# Altium footprint library whong.PcbLib: 68 footprints (part 4 of 5)
Each footprint in its own frame and in the unit in brackets; x right, y up, seen from the top. Pads: shape width x height; smd on the part's side, far side on the other; paste and mask are expansions set on the pad; w line width, h text height; cw(c..) or ccw(c..) is an arc to the next point about the centre after c.
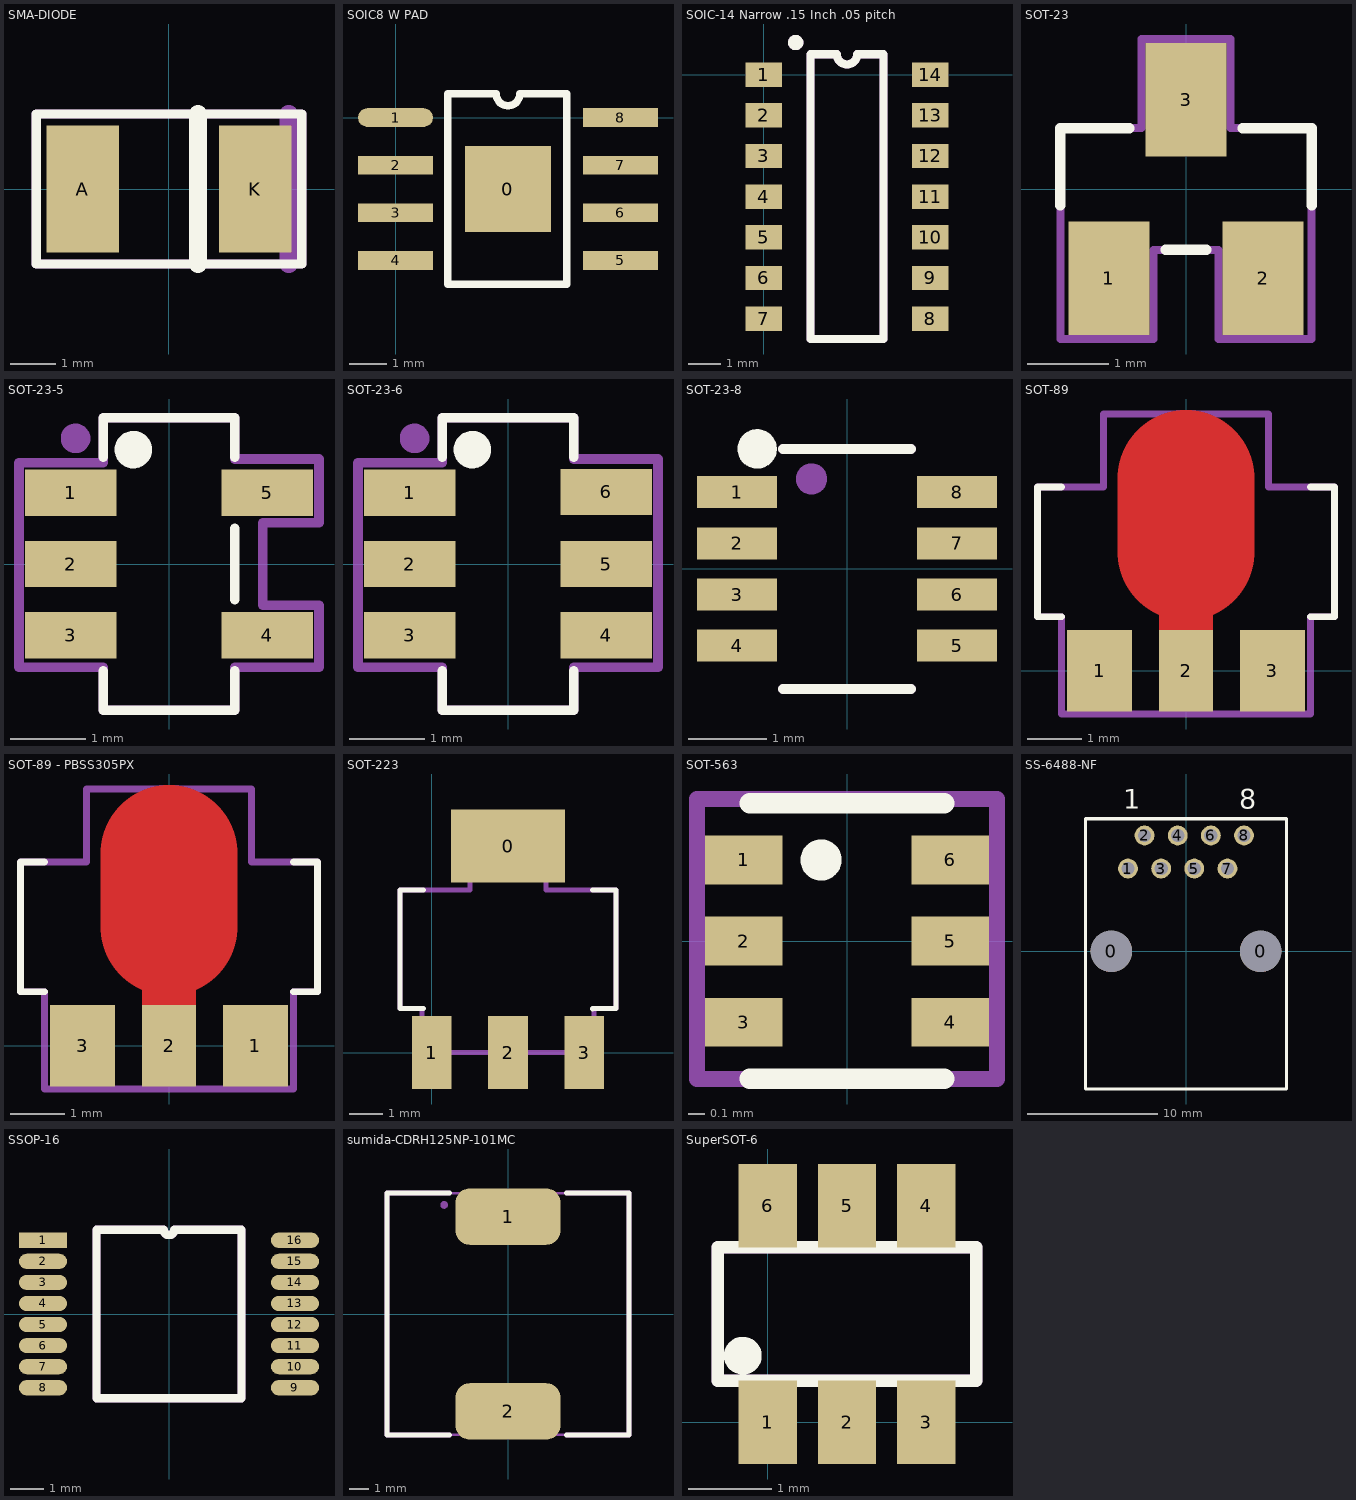
[diagram p3: the footprints below, top view; thin cyan lines are the x and y axes]

## SM8 [mm]
height 1.7

## SMA-DIODE [mm]
pads (2):
  rect 1.6x2.8 smd: A(-1.9,0) K(1.9,0)
Top Overlay:
  lines w0.2: -2.921,-1.651 -2.921,1.651 2.921,1.651 2.921,-1.651 -2.921,-1.651
  lines w0.4: 0.635,-1.651 0.635,1.651
Mechanical 6:
  lines w0.2: -2.921,-1.651 2.921,-1.651 2.921,1.651 -2.921,1.651 -2.921,-1.651
  lines w0.4: 2.635,-1.651 2.635,1.651
  text ".designator" at -2.5,-1 h1.02

## SOIC8 W PAD [mm]
pads (9):
  rect 2.3x2.3 smd: 0(3,-1.905)
  oval 2x0.5 smd: 1(0,0)
  rect 2x0.5 smd: 2(0,-1.27) 3(0,-2.54) 4(0,-3.81) 5(6,-3.81) 6(6,-2.54) 7(6,-1.27) 8(6,0)
Top Overlay:
  lines w0.2: 1.397,-4.445 1.397,0.635 2.682,0.635 ccw(c3,0.635) 3.317,0.635 4.572,0.635 4.572,-4.445 1.397,-4.445

## SOIC-14 Narrow .15 Inch .05 pitch [mil] "SOIC-14 Narrow .15 Inch .05 pitch"
pads (14):
  rect 45x30 smd: 1(0,0) 2(0,-50) 3(0,-100) 4(0,-150) 5(0,-200) 6(0,-250) 7(0,-300) 8(205,-300) 9(205,-250) 10(205,-200) 11(205,-150) 12(205,-100) 13(205,-50) 14(205,0)
Top Overlay:
  circle w10: c39.37,39.37 r4.42
  lines w10: 57.5,-325 57.5,25 90,25 ccw(c102.5,25) 115,25 147.5,25 147.5,-325 57.5,-325
Mechanical 6:
  circle w10: c39.37,39.37 r4.42
  lines w10: 57.5,-325 147.5,-325 147.5,25 115,25 cw(c102.5,25) 90,25 57.5,25 57.5,-325
  text ".Designator" at 90,-5 h30
3D body: height 70, standoff 4, extent 27,-320 177,20
3D body: height 30, standoff 0, extent -18,-7.5 27,7.5
3D body: height 30, standoff 0, extent -18,-57.5 27,-42.5
3D body: height 30, standoff 0, extent -18,-107.5 27,-92.5
3D body: height 30, standoff 0, extent -18,-157.5 27,-142.5
3D body: height 30, standoff 0, extent -18,-207.5 27,-192.5
3D body: height 30, standoff 0, extent -18,-257.5 27,-242.5
3D body: height 30, standoff 0, extent -18,-307.5 27,-292.5
3D body: height 30, standoff 0, extent 177,-307.5 222,-292.5
3D body: height 30, standoff 0, extent 177,-257.5 222,-242.5
3D body: height 30, standoff 0, extent 177,-207.5 222,-192.5
3D body: height 30, standoff 0, extent 177,-157.5 222,-142.5
3D body: height 30, standoff 0, extent 177,-107.5 222,-92.5
3D body: height 30, standoff 0, extent 177,-57.5 222,-42.5
3D body: height 30, standoff 0, extent 177,-7.5 222,7.5

## SOT-23 [mm] "SOT-23"
height 1.3
pads (3):
  rect 1x1.4 smd: 1(-0.95,-1.1) 2(0.95,-1.1) 3(0,1.1)
Top Overlay:
  lines w0.127: -1.55,-0.2 -1.55,0.75 -0.7,0.75 ; -0.25,-0.75 0.25,-0.75 ; 0.7,0.75 1.55,0.75 1.55,-0.2
Mechanical 6:
  lines w0.1: -1.55,-1.85 -0.4,-1.85 -0.4,-0.75 0.4,-0.75 0.4,-1.85 1.55,-1.85 1.55,0.75 0.55,0.75 0.55,1.85 -0.55,1.85 -0.55,0.75 -1.55,0.75 -1.55,-1.85
  text ".Designator" at -1.35,-0.275 h0.8
3D body: height 0.5, standoff 0.4, extent 0.65,-0.95 1.25,-0.75
3D body: height 0.5, standoff 0, extent 0.65,-1.05 1.25,-0.95
3D body: height 0.1, standoff 0, extent 0.65,-1.35 1.25,-1.05
3D body: height 0.5, standoff 0.4, extent -1.25,-0.95 -0.65,-0.75
3D body: height 0.5, standoff 0, extent -1.25,-1.05 -0.65,-0.95
3D body: height 0.1, standoff 0, extent -1.25,-1.35 -0.65,-1.05
3D body: height 0.5, standoff 0.4, extent -0.3,0.75 0.3,0.95
3D body: height 0.5, standoff 0, extent -0.3,0.95 0.3,1.05
3D body: height 0.1, standoff 0, extent -0.3,1.05 0.3,1.35
3D body: height 1.3, standoff 0.1, extent -1.549,-0.749 1.549,0.749

## SOT-23-5 [mm] "SOT23, 5-Leads, Body 3.1x3.0mm (max), Pitch 0.95mm, IPC High Density"
height 1
pads (5):
  rect 1.22x0.62 smd: 1(-1.31,0.95) 2(-1.31,0) 3(-1.31,-0.95) 4(1.31,-0.95) 5(1.31,0.95)
Top Overlay:
  circle w0.25: c-0.475,1.525 r0.125
  lines w0.127: -0.875,-1.425 -0.875,-1.95 0.875,-1.95 0.875,-1.425 ; -0.875,1.425 -0.875,1.95 0.875,1.95 0.875,1.425 ; 0.875,-0.475 0.875,0.475
Mechanical 6:
  circle w0.254: c-1.246,1.675 r0.071
  lines w0.127: -2,-1.375 -2,1.35 -0.875,1.35 -0.875,1.95 0.875,1.95 0.875,1.4 2,1.4 2,0.55 1.25,0.55 1.25,-0.55 2,-0.55 2,-1.375 0.875,-1.375 0.875,-1.95 -0.875,-1.95 -0.875,-1.375 -2,-1.375
  text ".designator" at -1.05,-0.3 h0.7
3D body: height 0.1, standoff 0, extent 1.2,-1.15 1.4,-0.75
3D body: height 0.6, standoff 0, extent 1.1,-1.15 1.2,-0.75
3D body: height 0.6, standoff 0.5, extent 0.875,-1.15 1.1,-0.75
3D body: height 0.1, standoff 0, extent 1.2,0.75 1.4,1.15
3D body: height 0.6, standoff 0, extent 1.1,0.75 1.2,1.15
3D body: height 0.6, standoff 0.5, extent 0.875,0.75 1.1,1.15
3D body: height 0.1, standoff 0, extent -1.4,0.75 -1.2,1.15
3D body: height 0.6, standoff 0, extent -1.2,0.75 -1.1,1.15
3D body: height 0.6, standoff 0.5, extent -1.1,0.75 -0.875,1.15
3D body: height 0.1, standoff 0, extent -1.4,-1.15 -1.2,-0.75
3D body: height 0.6, standoff 0, extent -1.2,-1.15 -1.1,-0.75
3D body: height 0.6, standoff 0.5, extent -1.1,-1.15 -0.875,-0.75
3D body: height 0.6, standoff 0.5, extent -1.1,-0.2 -0.875,0.2
3D body: height 0.6, standoff 0, extent -1.2,-0.2 -1.1,0.2
3D body: height 0.1, standoff 0, extent -1.4,-0.2 -1.2,0.2
3D body: height 1, standoff 0.1, extent -0.874,-1.949 0.874,1.949

## SOT-23-6 [mm] "SOT23, 5-Leads, Body 3.1x3.0mm (max), Pitch 0.95mm, IPC High Density"
height 1
pads (6):
  rect 1.22x0.62 smd: 1(-1.31,0.95) 2(-1.31,0) 3(-1.31,-0.95) 4(1.31,-0.95) 5(1.31,0) 6(1.31,0.96)
Top Overlay:
  circle w0.25: c-0.475,1.525 r0.125
  lines w0.127: -0.875,-1.425 -0.875,-1.95 0.875,-1.95 0.875,-1.425 ; -0.875,1.425 -0.875,1.95 0.875,1.95 0.875,1.425
Mechanical 6:
  circle w0.254: c-1.246,1.675 r0.071
  lines w0.127: -2,-1.375 -0.875,-1.375 -0.875,-1.95 0.875,-1.95 0.875,-1.375 2,-1.375 2,1.4 0.875,1.4 0.875,1.95 -0.875,1.95 -0.875,1.35 -2,1.35 -2,-1.375
  text ".designator" at -1.05,-0.3 h0.7
3D body: height 0.1, standoff 0, extent 1.2,-0.19 1.4,0.21
3D body: height 0.6, standoff 0, extent 1.1,-0.19 1.2,0.21
3D body: height 0.6, standoff 0.5, extent 0.875,-0.19 1.1,0.21
3D body: height 1, standoff 0.1, extent -0.874,-1.949 0.874,1.949
3D body: height 0.1, standoff 0, extent -1.4,-0.2 -1.2,0.2
3D body: height 0.6, standoff 0, extent -1.2,-0.2 -1.1,0.2
3D body: height 0.6, standoff 0.5, extent -1.1,-0.2 -0.875,0.2
3D body: height 0.6, standoff 0.5, extent -1.1,-1.15 -0.875,-0.75
3D body: height 0.6, standoff 0, extent -1.2,-1.15 -1.1,-0.75
3D body: height 0.1, standoff 0, extent -1.4,-1.15 -1.2,-0.75
3D body: height 0.6, standoff 0.5, extent -1.1,0.75 -0.875,1.15
3D body: height 0.6, standoff 0, extent -1.2,0.75 -1.1,1.15
3D body: height 0.1, standoff 0, extent -1.4,0.75 -1.2,1.15
3D body: height 0.6, standoff 0.5, extent 0.875,0.75 1.1,1.15
3D body: height 0.6, standoff 0, extent 1.1,0.75 1.2,1.15
3D body: height 0.1, standoff 0, extent 1.2,0.75 1.4,1.15
3D body: height 0.6, standoff 0.5, extent 0.875,-1.15 1.1,-0.75
3D body: height 0.6, standoff 0, extent 1.1,-1.15 1.2,-0.75
3D body: height 0.1, standoff 0, extent 1.2,-1.15 1.4,-0.75

## SOT-23-8 [mil] "SOT23, 8-Leads"
height 39.37
pads (8):
  rect 40x16 smd: 1(-55,38.4) 2(-55,12.8) 3(-55,-12.8) 4(-55,-38.4) 5(55,-38.4) 6(55,-12.8) 7(55,12.8) 8(55,38.4)
Top Overlay:
  circle w9.84: c-44.92,60 r4.92
  lines w5: -32,-60 32,-60 ; -32,60 32,60
Mechanical 6:
  circle w10: c-17.78,45 r2.78
  lines w5: -32,-60 32,-60 ; -32,60 32,60
  text ".designator" at 15,-55 h27.56
3D body: height 39.37, standoff 3.94, extent -32,-60 32,60
3D body: height 23.62, standoff 19.68, extent -40.86,30.53 -32,46.27
3D body: height 23.62, standoff 0, extent -44.8,30.53 -40.86,46.27
3D body: height 3.94, standoff 0, extent -52.67,30.53 -44.8,46.27
3D body: height 23.62, standoff 19.68, extent -40.86,4.93 -32,20.67
3D body: height 23.62, standoff 0, extent -44.8,4.93 -40.86,20.67
3D body: height 3.94, standoff 0, extent -52.67,4.93 -44.8,20.67
3D body: height 23.62, standoff 19.68, extent -40.86,-20.67 -32,-4.93
3D body: height 23.62, standoff 0, extent -44.8,-20.67 -40.86,-4.93
3D body: height 3.94, standoff 0, extent -52.67,-20.67 -44.8,-4.93
3D body: height 23.62, standoff 19.68, extent -40.86,-46.27 -32,-30.53
3D body: height 23.62, standoff 0, extent -44.8,-46.27 -40.86,-30.53
3D body: height 3.94, standoff 0, extent -52.67,-46.27 -44.8,-30.53
3D body: height 23.62, standoff 19.68, extent 32,-46.27 40.86,-30.53
3D body: height 23.62, standoff 0, extent 40.86,-46.27 44.8,-30.53
3D body: height 3.94, standoff 0, extent 44.8,-46.27 52.67,-30.53
3D body: height 23.62, standoff 19.68, extent 32,-20.67 40.86,-4.93
3D body: height 23.62, standoff 0, extent 40.86,-20.67 44.8,-4.93
3D body: height 3.94, standoff 0, extent 44.8,-20.67 52.67,-4.93
3D body: height 23.62, standoff 19.68, extent 32,4.93 40.86,20.67
3D body: height 23.62, standoff 0, extent 40.86,4.93 44.8,20.67
3D body: height 3.94, standoff 0, extent 44.8,4.93 52.67,20.67
3D body: height 23.62, standoff 19.68, extent 32,30.53 40.86,46.27
3D body: height 23.62, standoff 0, extent 40.86,30.53 44.8,46.27
3D body: height 3.94, standoff 0, extent 44.8,30.53 52.67,46.27

## SOT-89 [mm] "SOT-89"
height 1.4
pads (3):
  rect 1.2x1.5 smd: 1(-1.6,0) 3(1.6,0)
  rect 1x1.5 smd: 2(0,0)
Top Layer:
  lines w1: 0,0 0,1.778
  lines w2.54: 0,2.2 0,3.556
Top Overlay:
  lines w0.127: -2.3,1 -2.75,1 -2.75,3.4 -2.3,3.4 ; 2.3,1 2.75,1 2.75,3.4 2.3,3.4
Top Solder:
  region: -0.6,0.8 -0.6,1.3 0.6,1.3 0.6,0.8
  lines w2.794: 0,2.2 0,3.556
Mechanical 6:
  lines w0.127: -2.75,1 -2.3,1 -2.3,-0.8 2.3,-0.8 2.3,1 2.75,1 2.75,3.4 1.524,3.4 1.524,4.75 -1.524,4.75 -1.524,3.4 -2.75,3.4 -2.75,1
  text ".Designator" at -2.5,1.7 h0.8
3D body: height 1.3, standoff 0.1, extent -2.75,1 2.75,3.4
3D body: height 0.1, standoff 0, extent -1.8,0 -1.4,1
3D body: height 0.1, standoff 0, extent -0.2,0 0.2,1
3D body: height 0.1, standoff 0, extent 1.4,0 1.8,1
3D body: height 0.1, standoff 0, extent -0.85,3.4 0.85,4.4

## SOT-89 - PBSS305PX [mm] "SOT-89"
height 1.4
pads (3):
  rect 1.2x1.5 smd: 1(1.6,0) 3(-1.6,0)
  rect 1x1.5 smd: 2(0,0)
Top Layer:
  lines w1: 0,0 0,1.778
  lines w2.54: 0,2.2 0,3.556
Top Overlay:
  lines w0.127: -2.3,1 -2.75,1 -2.75,3.4 -2.3,3.4 ; 2.3,1 2.75,1 2.75,3.4 2.3,3.4
Top Solder:
  region: -0.6,0.8 -0.6,1.3 0.6,1.3 0.6,0.8
  lines w2.794: 0,2.2 0,3.556
Mechanical 6:
  lines w0.127: -2.75,1 -2.75,3.4 -1.524,3.4 -1.524,4.75 1.524,4.75 1.524,3.4 2.75,3.4 2.75,1 2.3,1 2.3,-0.8 -2.3,-0.8 -2.3,1 -2.75,1
  text ".Designator" at -2.5,1.7 h0.8
3D body: height 0.1, standoff 0, extent -0.85,3.4 0.85,4.4
3D body: height 0.1, standoff 0, extent 1.4,0 1.8,1
3D body: height 0.1, standoff 0, extent -0.2,0 0.2,1
3D body: height 0.1, standoff 0, extent -1.8,0 -1.4,1
3D body: height 1.3, standoff 0.1, extent -2.75,1 2.75,3.4

## SOT-223 [mil] "SOT-223"
height 51.18
pads (4):
  rect 135x86 smd: 0(90,244)
  rect 47x86 smd: 1(0,0) 2(90,0) 3(180,0)
Top Overlay:
  lines w6: -10,52 -37.5,52 -37.5,192 -10,192 ; 189.99,51.8 217.5,52 217.5,192 190,192
Mechanical 6:
  lines w6: -11.81,0 191.81,0 191.81,51.81 217.5,52 217.5,192 135,192 135,244 45,244 45,192 -37.5,192 -37.5,52 -11.81,52 -11.81,0.19
  text ".Designator" at -18,106 h31.5
3D body: height 19.68, standoff 15.75, extent 45,192 135,215
3D body: height 19.68, standoff 0, extent 45,215 135,219
3D body: height 3.94, standoff 0, extent 45,219 135,244
3D body: height 19.68, standoff 15.75, extent 168.19,28.81 191.81,51.81
3D body: height 19.68, standoff 0, extent 168.19,24.87 191.81,28.81
3D body: height 3.94, standoff 0, extent 168.19,0 191.81,24.87
3D body: height 19.68, standoff 15.75, extent 78.19,28.81 101.81,51.81
3D body: height 19.68, standoff 0, extent 78.19,24.87 101.81,28.81
3D body: height 3.94, standoff 0, extent 78.19,0 101.81,24.87
3D body: height 3.94, standoff 0, extent -11.81,0.19 11.81,25.06
3D body: height 19.68, standoff 0, extent -11.81,25.06 11.81,29
3D body: height 19.68, standoff 15.75, extent -11.81,29 11.81,52
3D body: height 51.18, standoff 3.94, extent -37.5,52 217.5,192

## SOT-563 [mm] "SOT-563/SC89, 6 leads 0.5mm pitch, drawing from: http://www.vishay.com/docs/72605/72605.pdf"
height 0.6
pads (6):
  rect 0.478x0.3 smd: 1(-0.638,0.5) 2(-0.638,0) 3(-0.638,-0.5) 4(0.638,-0.5) 5(0.638,0) 6(0.638,0.5)
Top Overlay:
  circle w0.127: c-0.16,0.5 r0.064
  lines w0.127: -0.6,-0.85 0.6,-0.85 ; -0.6,0.85 0.6,0.85
Mechanical 6:
  lines w0.1: -0.925,-0.85 -0.925,-0.75 -0.925,0.875 0.925,0.875 0.925,-0.85 -0.925,-0.85
  text ".designator" at -0.5,-0.375 h0.51
3D body: height 0.15, standoff 0, extent 0.5,-0.125 0.85,0.125
3D body: height 0.15, standoff 0, extent 0.5,-0.625 0.85,-0.375
3D body: height 0.15, standoff 0, extent 0.5,0.375 0.85,0.625
3D body: height 0.15, standoff 0, extent -0.85,-0.125 -0.5,0.125
3D body: height 0.15, standoff 0, extent -0.85,-0.625 -0.5,-0.375
3D body: height 0.15, standoff 0, extent -0.85,0.375 -0.5,0.625
3D body: height 0.15, standoff 0, extent -0.6,-0.85 0.6,0.85
3D body: height 0.6, standoff 0.15, extent -0.6,-0.85 0.6,0.85

## SS-6488-NF [mil] "RJ45"
height 515
pads (10):
  round 125 hole 125: 0(-225,0) 0(225,0)
  round 60 hole 40: 1(-175,250) 2(-125,350) 3(-75,250) 4(-25,350) 5(25,250) 6(75,350) 7(125,250) 8(175,350)
Top Overlay:
  lines w10: -303,-415 303,-415 303,400 -303,400 -303,-415
  text "1" at -190,430 h60
  text "8" at 160,430 h60
Mechanical 6:
  text ".designator" at 65,40 h27.56

## SSOP-16 [mil]
pads (16):
  rect 57x18 smd: 1(-149.5,87.5)
  oval 57x18 smd: 2(-149.5,62.5) 3(-149.5,37.5) 4(-149.5,12.5) 5(-149.5,-12.5) 6(-149.5,-37.5) 7(-149.5,-62.5) 8(-149.5,-87.5) 9(149.5,-87.5) 10(149.5,-62.5) 11(149.5,-37.5) 12(149.5,-12.5) 13(149.5,12.5) 14(149.5,37.5) 15(149.5,62.5) 16(149.5,87.5)
Top Overlay:
  lines w10: -86,-100 -86,100 -6.25,100 ccw(c0,100) 6.25,100 86,100 86,-100 -86,-100
Mechanical 6:
  lines w10: -86,-100 86,-100 86,100 6.25,100 cw(c0,100) -6.25,100 -86,100 -86,-100
  text ".designator" at -68.9,-29.53 h40

## sumida-CDRH125NP-101MC [mm] "SMT Inductor"
height 6
pads (2):
  rrect50% 5.4x2.9 smd: 1(0,5) 2(0,-5)
Top Overlay:
  lines w0.254: -3,-6.2 -6.2,-6.2 -6.2,6.2 -3,6.2 ; 3,-6.2 6.2,-6.2 6.2,6.2 3,6.2
Mechanical 1:
  lines w0.254: -3,-6.2 -6.2,-6.2 -6.2,6.2 -3,6.2 ; 3,-6.2 6.2,-6.2 6.2,6.2 3,6.2
Mechanical 6:
  circle w0.254: c-3.275,5.6 r0.071
  lines w0.127: -6.2,-6.2 6.2,-6.2 6.2,6.2 -6.2,6.2 -6.2,-6.175
  text ".Designator" at -1.475,-0.225 h1

## SuperSOT-6 [mm] "Super SOT 6"
height 1.3
pads (6):
  rect 0.7x1 smd: 1(0,0) 2(0.95,0) 3(1.9,0) 4(1.9,2.6) 5(0.95,2.6) 6(0,2.6)
Top Overlay:
  circle w0.254: c-0.3,0.8 r0.1
  lines w0.152: -0.6,0.5 2.5,0.5 2.5,2.1 -0.6,2.1 -0.6,0.5
Mechanical 6:
  lines w0.152: -0.6,0.5 -0.6,2.1 2.5,2.1 2.5,0.5 -0.6,0.5
  text ".designator" at -0.457,0.838 h0.8
3D body: height 0.5, standoff 0.4, extent -0.3,2.05 0.3,2.25
3D body: height 0.5, standoff 0, extent -0.3,2.25 0.3,2.35
3D body: height 0.1, standoff 0, extent -0.3,2.35 0.3,2.65
3D body: height 0.5, standoff 0.4, extent 1.6,2.05 2.2,2.25
3D body: height 0.5, standoff 0, extent 1.6,2.25 2.2,2.35
3D body: height 0.1, standoff 0, extent 1.6,2.35 2.2,2.65
3D body: height 0.5, standoff 0.4, extent 0.65,0.35 1.25,0.55
3D body: height 0.5, standoff 0, extent 0.65,0.25 1.25,0.35
3D body: height 0.1, standoff 0, extent 0.65,-0.05 1.25,0.25
3D body: height 1.3, standoff 0.1, extent -0.599,0.551 2.499,2.049
3D body: height 0.1, standoff 0, extent 0.65,2.35 1.25,2.65
3D body: height 0.5, standoff 0, extent 0.65,2.25 1.25,2.35
3D body: height 0.5, standoff 0.4, extent 0.65,2.05 1.25,2.25
3D body: height 0.1, standoff 0, extent -0.3,-0.05 0.3,0.25
3D body: height 0.5, standoff 0, extent -0.3,0.25 0.3,0.35
3D body: height 0.5, standoff 0.4, extent -0.3,0.35 0.3,0.55
3D body: height 0.1, standoff 0, extent 1.6,-0.05 2.2,0.25
3D body: height 0.5, standoff 0, extent 1.6,0.25 2.2,0.35
3D body: height 0.5, standoff 0.4, extent 1.6,0.35 2.2,0.55